# Altium schematic symbol library LM337.Schlib: 1 symbol
Pins are listed as number, name and electrical type; pins without a type are passive.

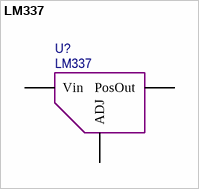
[diagram p0: symbol LM337]

## LM337
designator U?
pins: 1 ADJ, 3 PosOut, 4 Vin